# Altium integrated library AT28C64B-15PU.IntLib: 1 symbol
Pins are listed as number, name and electrical type; pins without a type are passive.

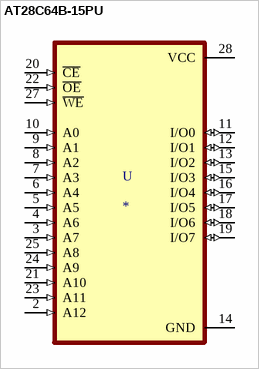
[diagram p0: symbol AT28C64B-15PU]

## AT28C64B-15PU
designator U
IC EEPROM 64K PARALLEL 28DIP; MF: Microchip Technology; MP: AT28C64B-15PU; Value: *; DigiKey-Purchase-URL: https://snapeda.com/shop?store=DigiKey&id=4816400; Package: None; Availability: Unavailable; SnapEDA_Link: https://www.snapeda.com/parts/AT28C64B-15PU/Atmel/view-part/4816400/?ref=snap; Mouser-Purchase-URL: https://snapeda.com/shop?store=Mouser&id=4816400; Price: None
footprint DIP1555W45P254L3733H482Q28
pins: 2 A12 (in), 3 A7 (in), 4 A6 (in), 5 A5 (in), 6 A4 (in), 7 A3 (in), 8 A2 (in), 9 A1 (in), 10 A0 (in), 11 I/O0 (io), 12 I/O1 (io), 13 I/O2 (io), 14 GND (power), 15 I/O3 (io), 16 I/O4 (io), 17 I/O5 (io), 18 I/O6 (io), 19 I/O7 (io), 20 ~{CE} (in), 21 A10 (in), 22 ~{OE} (in), 23 A11 (in), 24 A9 (in), 25 A8 (in), 27 ~{WE} (in), 28 VCC (power)